# EAGLE library part SN74AC08MDREP (library SN74AC08MDREP)
Enhanced Product Quadruple 2-Input Positive-And Gates Source: Datasheet <http://www.ti.com/lit/gpn/sn74ac08-ep>
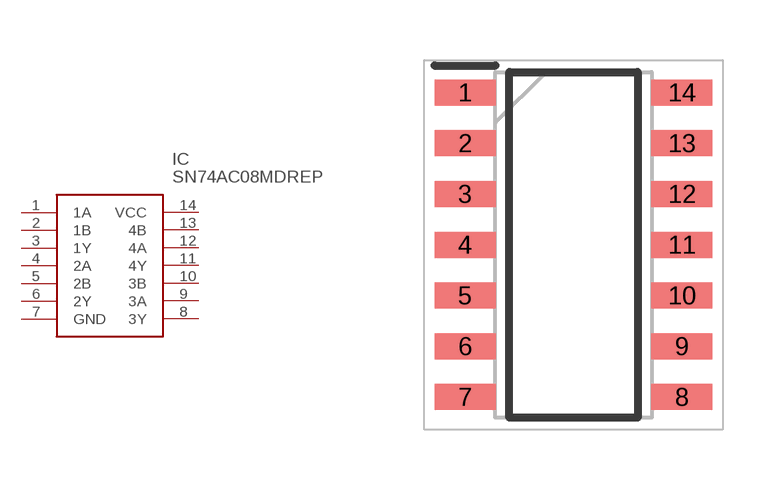
[diagram p0: symbol with the pads of SOIC127P600X175-14N; footprint SOIC127P600X175-14N]

Designator prefix IC

## SN74AC08MDREP (Description: Enhanced Product Quadruple 2-Input Positive-And Gates; Height: 1.75mm; Manufacturer_Name: Texas Instruments; Manufacturer_Part_Number: SN74AC08MDREP; Mouser_Part_Number: 595-SN74AC08MDREP; Mouser_Price-Stock: https://www.mouser.co.uk/ProductDetail/Texas-Instruments/SN74AC08MDREP?qs=fSCvMSq5ISVx3fDQQO%2Fa4w%3D%3D)  [SOIC127P600X175-14N]
1  1A
2  1B
3  1Y
4  2A
5  2B
6  2Y
7  GND
8  3Y
9  3A
10  3B
11  4Y
12  4A
13  4B
14  VCC

## Footprint SOIC127P600X175-14N (pad centres in mm)
D (-R-PDSO-G14)
smd 1.525 x 0.65: 1 -2.712,3.81; 2 -2.712,2.54; 3 -2.712,1.27; 4 -2.712,0; 5 -2.712,-1.27; 6 -2.712,-2.54; 7 -2.712,-3.81; 8 2.712,-3.81; 9 2.712,-2.54; 10 2.712,-1.27; 11 2.712,0; 12 2.712,1.27; 13 2.712,2.54; 14 2.712,3.81